# Altium schematic symbol library 2020-09-03_20-14-04.SchLib: 2 symbols
Pins are listed as number, name and electrical type; pins without a type are passive.

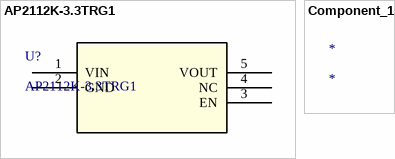
[diagram p0: symbols AP2112K-3.3TRG1 to Component_1]

## AP2112K-3.3TRG1
designator U?
No Description Available; Vendor: Diodes Inc; Built_By: EMA_Matt; SourceLibrary: Diodes_Inc_2019-12-05; Manufacturer_Part_Number: AP2112K-3.3TRG1; Copyright: Copyright (C) 2018 Accelerated Designs. All rights reserved; RefDes: RefDes; Type: DEV
footprint SOT_RG1_DIO
pins: 1 VIN, 2 GND, 3 EN, 4 NC, 5 VOUT

## Component_1
designator *